# Altium schematic symbol library Analog_mic_breakout.SchLib: 6 symbols
Pins are listed as number, name and electrical type; pins without a type are passive.

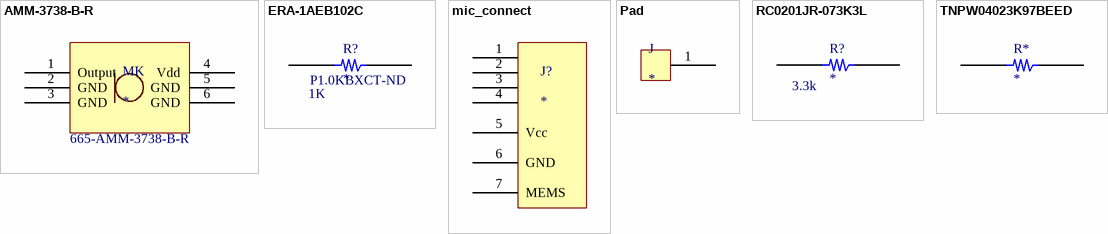
[diagram p0: symbols AMM-3738-B-R to TNPW04023K97BEED]

## AMM-3738-B-R
designator MK  Supplier Part Number 1: 665-AMM-3738-B-R
Manufacturer: PUI Audio; Supplier 1: Mouser
footprint 665-AMM-3738-B-R (Analog MEMS Microphone)
pins: 1 Output, 2 GND (power), 3 GND (power), 4 Vdd (power), 5 GND (power), 6 GND (power)

## ERA-1AEB102C
designator R?  Supplier Part Number 1: P1.0KBXCT-ND
0603 SMD 1K Res 0.1%; Supplier 1: Digi-Key
footprint 0603_SMD_Resistor
pins: 1, 2
text: 1K

## mic_connect
designator J?
footprint mic_connect (connection pad for behind ear microphone)
pins: 1, 2, 3, 4, 5 Vcc, 6 GND, 7 MEMS

## Pad
designator J
footprint Pad
pins: 1

## RC0201JR-073K3L
designator R?
3.3 kOhms ±5% 0.05W, 1/20W Chip Resistor 0201 (0603 Metric) Moisture Resistant Thick Film
footprint 0603_SMD_Resistor
pins: 1, 2
text: 3.3k

## TNPW04023K97BEED
designator R*
3.97K OHM resistor 0.1% 1/16W 0402
footprint TNPW04023K97BEED (3.97K OHM resistor 0.1% 1/16W 0402 imperial)
pins: 1, 2